# Altium integrated library optocouplers.IntLib: 8 symbols
Pins are listed as number, name and electrical type; pins without a type are passive.

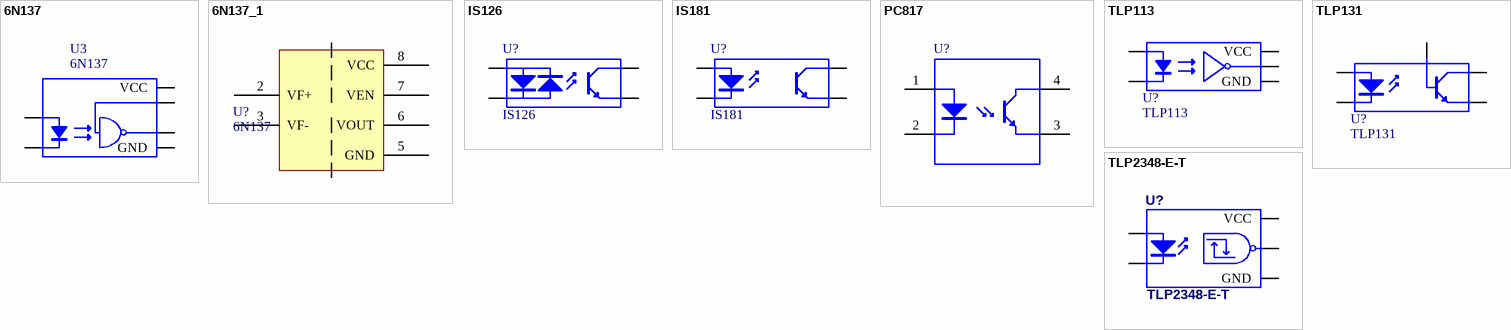
[diagram p0: symbols 6N137 to TLP2348-E-T]

## 6N137
designator U3
Single-Channel High Speed-10 Mbps Logic Gate Optocouplers
footprint DIP8
footprint DIP8_MANUAL
footprint DIP8_SMD
pins: 2 VF+ "Anode", 3 VF- "Cathode", 5 GND "Emitter", 6 VOUT "Base", 7 VEN "Base", 8 VCC "Collector"
1 alternate drawing of the same symbol

## 6N137_1
designator U?, comment 6N137
Single-channel High Speed-10 Mbps Logic Gate Optocouplers
footprint DIP8
footprint DIP8_MANUAL
footprint DIP8_SMD
pins: 1 NC` hidden, 2 VF+, 3 VF-, 4 NC hidden, 5 GND, 6 VOUT, 7 VEN, 8 VCC

## IS126
designator U?
ISOCOM AC Input High Density Mounting Optically Coupled Isolators, VCE=35V, VIso=3k75Vrms; Published: 24-Mar-1999; LatestRevisionDate: 04-Mar-2005; LatestRevisionNote: Sch pins 3 & 4 Swapped.; DatasheetVersion: Nov-2003; PackageReference: DIP-4; Publisher: Altium Limited
footprint SOP4(6) (Small Outline; 6 Leads (2 Absent); Body Width 4.4 mm; Pitch 1.27 mm)
pins: 1 A "Anode", 2 K "Cathode", 3 E "Emitter", 4 C "Collector"

## IS181
designator U?
ISOCOM High Density Mounting Optically Coupled Isolators, VCE=35V, VIso=3k75Vrms; Published: 24-Mar-1999; LatestRevisionDate: 04-Mar-2005; LatestRevisionNote: Sch pins 3 & 4 Swapped.; DatasheetVersion: Nov-2003; PackageReference: DIP-4; Publisher: Altium Limited
footprint SOP4(6) (Small Outline; 6 Leads (2 Absent); Body Width 4.4 mm; Pitch 1.27 mm)
pins: 1 A "Anode", 2 K "Cathode", 3 E "Emitter", 4 C "Collector"

## PC817
designator U?
Optocoupler; Published: 19-Feb-2006
footprint DIP4
pins: 1 Anode, 2 Cathode, 3 Emitter, 4 Collector

## TLP113
designator U?
Logic Output; Out: OC; 2.5kV; 10Mbps; SMD; MFP5; Published: 24-Mar-1999; LatestRevisionDate: 04-Mar-2005; LatestRevisionNote: PCB Footprint replaced, Sch pins re-numbered.; DatasheetVersion: Apr-2004; PackageReference: SOP5(6); Publisher: Altium Limited; PackageDescription: Small Outline; 6 Leads (1 Absent); Body Width 4.4 mm; Pitch 1.27 mm
footprint SOP5(6) (Small Outline; 6 Leads (1 Absent); Body Width 4.4 mm; Pitch 1.27 mm)
pins: 1 A "Anode", 3 K "Cathode", 4 GND "Emitter", 5 OUT "Base", 6 VCC "Collector"

## TLP131
designator U?
TOSHIBA Mini Flat Small Outline Coupler, Transistor Output (VCE=80V), VIsol=3k75Vrms; Published: 24-Mar-1999; LatestRevisionDate: 04-Mar-2005; LatestRevisionNote: PCB Footprint replaced, Sch pins re-numbered.; DatasheetVersion: Apr-2004; PackageReference: SOP5(6); Publisher: Altium Limited; PackageDescription: Small Outline; 6 Leads (1 Absent); Body Width 4.4 mm; Pitch 1.27 mm
footprint SOP5(6) (Small Outline; 6 Leads (1 Absent); Body Width 4.4 mm; Pitch 1.27 mm)
simulation model OPTOISO (Spice Subcircuit)
pins: 1 A "Anode", 3 K "Cathode", 4 E "Emitter", 5 C "Collector", 6 B "Base"

## TLP2348-E-T
designator U?
TOSHIBA Mini Flat Small Outline Coupler, Schmitt Inverted Output (VCC=4.5V - 30V), VIsol=3k75Vrms; Published: 24-Mar-1999; LatestRevisionDate: 04-Mar-2005; LatestRevisionNote: PCB Footprint replaced, Sch pins re-numbered.; DatasheetVersion: Apr-2004; PackageReference: SOP5(6); Publisher: Altium Limited; PackageDescription: Small Outline; 6 Leads (1 Absent); Body Width 4.4 mm; Pitch 1.27 mm
footprint SOP5(6) (Small Outline; 6 Leads (1 Absent); Body Width 4.4 mm; Pitch 1.27 mm)
simulation model OPTOISO (Spice Subcircuit)
pins: 1 A "Anode", 3 K "Cathode", 4 GND "Emitter", 5 OUTPUT "Base", 6 VCC "Collector"